# EAGLE library part PIC16F1938* (library Parts)
28-Pin フラッシュ マイクロコントローラ ■プログラムメモリサイズ : 28K words ■EEPROMサイズ : 256 bytes ■RAMサイズ : 1K bytes ■I/O数 : 25 ■電圧 - 電源 : 1.8-5.5V ■動作温度 : -40°C～85°C
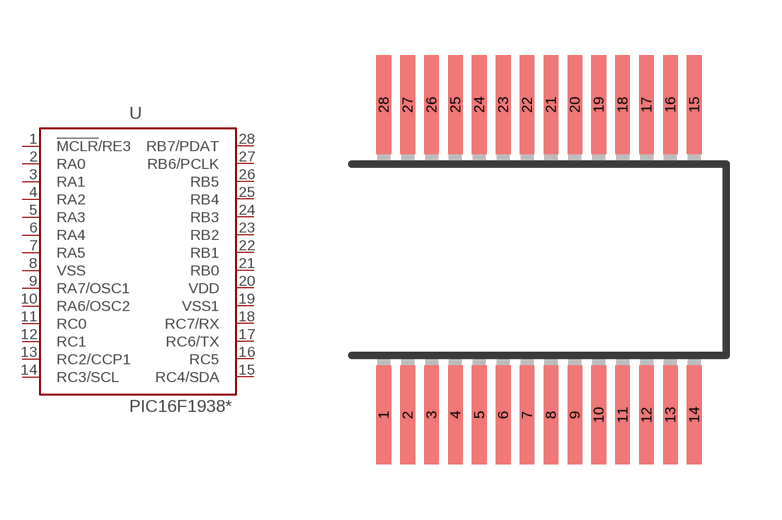
[diagram p1: symbol with the pads of SSOP28; footprint SSOP28]

Designator prefix U

## PIC16F1938-I/SS  [SSOP28]
1  !MCLR!/RE3
2  RA0
3  RA1
4  RA2
5  RA3
6  RA4
7  RA5
8  VSS  pas
9  RA7/OSC1
10  RA6/OSC2
11  RC0
12  RC1
13  RC2/CCP1
14  RC3/SCL
15  RC4/SDA
16  RC5
17  RC6/TX
18  RC7/RX
19  VSS1  pas
20  VDD  pas
21  RB0
22  RB1
23  RB2
24  RB3
25  RB4
26  RB5
27  RB6/PCLK
28  RB7/PDAT

## Footprint SSOP28 (pad centres in mm)
Shrink Small Outline Package package type SS
smd 0.4 x 2.7: 1 -4.225,-4.225; 2 -3.575,-4.225; 3 -2.925,-4.225; 4 -2.275,-4.225; 5 -1.625,-4.225; 6 -0.975,-4.225; 7 -0.325,-4.225; 8 0.325,-4.225; 9 0.975,-4.225; 10 1.625,-4.225; 11 2.275,-4.225; 12 2.925,-4.225; 13 3.575,-4.225; 14 4.225,-4.225; 15 4.225,4.225; 16 3.575,4.225; 17 2.925,4.225; 18 2.275,4.225; 19 1.625,4.225; 20 0.975,4.225; 21 0.325,4.225; 22 -0.325,4.225; 23 -0.975,4.225; 24 -1.625,4.225; 25 -2.275,4.225; 26 -2.925,4.225; 27 -3.575,4.225; 28 -4.225,4.225